# Altium schematic symbol library Schlib1.SchLib: 7 symbols
Pins are listed as number, name and electrical type; pins without a type are passive.

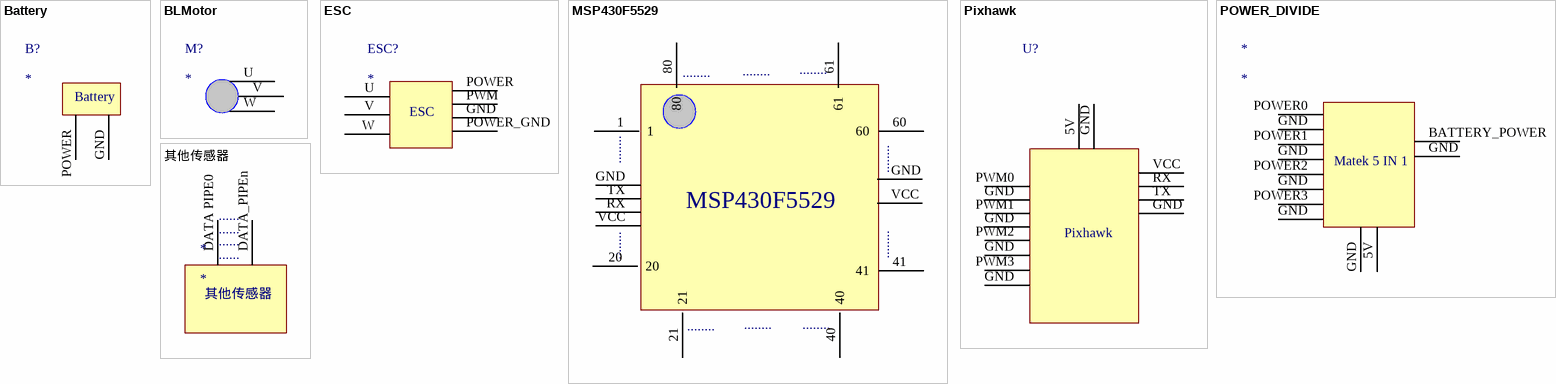
[diagram p0: symbols Battery to 其他传感器]

## Battery
designator B?
pins: GND 89, POWER 88

## BLMotor
designator M?
pins: U 83, V 84, W 85

## ESC
designator ESC?
pins: GND 87, POWER 86, POWER_GND 87, PWM 87, U 87, V 87, W

## MSP430F5529
designator  
pins: 1, 20, 21, 40, 41, 60, 61, 80, GND 81, GND 25, RX 24, TX 25, VCC 82, VCC 23
text: ........

## Pixhawk
designator U?
pins: 5V 25, GND 27, GND 29, GND 31, GND 33, GND 25, GND 25, PWM0, PWM1 28, PWM2 32, PWM3 30, RX 24, TX 25, VCC 23

## POWER_DIVIDE
designator *
pins: 5V 96, BATTERY_POWER 94, GND 91, GND 93, GND 91, GND 93, GND 95, GND 97, POWER0 90, POWER1 92, POWER2 90, POWER3 92
text: Matek 5 IN 1

## 其他传感器
designator *
pins: DATA PIPE0 98, DATA_PIPEn 99
text: ......